# Altium schematic symbol library R20_PCBM.SchLib: 19 symbols
Pins are listed as number, name and electrical type; pins without a type are passive.

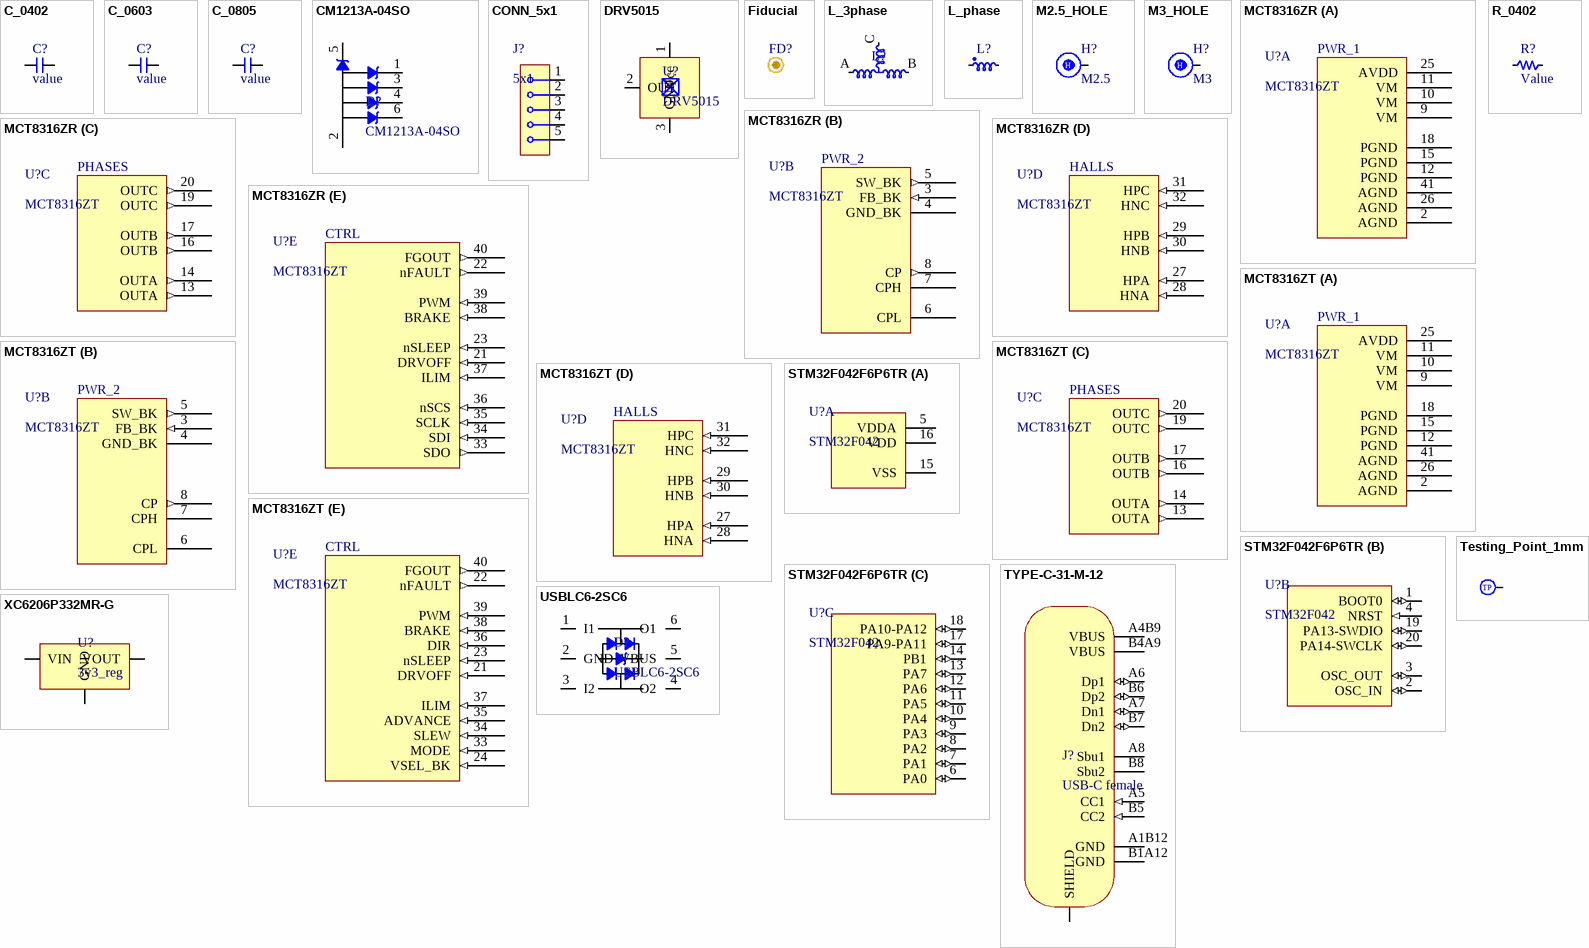
[diagram p0: symbols C_0402 to XC6206P332MR-G]

## C_0402
designator C?, comment value
0402 cap
footprint C0402 (Chip Capacitor, 2-Leads, Body 1.00x0.50mm, IPC Medium Density)
pins: 1, 2

## C_0603
designator C?, comment value
0603 cap
footprint C0603 (Chip Capacitor, 2-Leads, Body 1.60x0.80mm, IPC Medium Density)
pins: 1, 2

## C_0805
designator C?, comment value
0805 cap
footprint C0805 (Chip Capacitor, 2-Leads, Body 2.00x1.25mm, IPC Medium Density)
pins: 1, 2

## CM1213A-04SO
designator D?
Trans Voltage Suppressor Diode, Unidirectional, 1 Element, Silicon, MO-178AB; Manufacturer: ON Semiconductor; Package Body Material: Plastic; Clamping Voltage-Max: 10V; Number of Elements: 1; Max Power Dissipation: 225mW; Qualification Status: Not Qualified; Supplier 1: Arrow Electronics; Manufacturer Part Number: CM1213A-04SO; RoHS: Yes; Category: ESD and Circuit Protection ICs; Stock 1: 6000; Pricing 1: 3000=0.1525, 6000=0.1446, 15000=0.1407, 30000=0.1379 (USD); Pins: 6; Terminal Finish: Tin; Diode Element Material: SILICON; Package Shape: Rectangular; JESD-609 Code: e3; Polarity: Unidirectional; Diode Type: TRANS VOLTAGE SUPPRESSOR; Moisture Sensitivity Level: 1; Surface Mount: Yes; JESD-30 Code: R-PDSO-G6; Package Style: SMALL OUTLINEMeter; Technology: AVALANCHE; Terminal Form: Gull Wing; Terminal Position: DUAL; Reach SVHC Compliant: Yes; RoHS Compliant: Yes; ComponentLink1URL: https://datasheet.ciiva.com:443/pdfs/VipMasterIC/IC/ONSM/ONSM-S-A0004900107/ONSM-S-A0004899992-1.pdf?src-supplier=IHS+Markit; ComponentLink1Description: https://datasheet.ciiva.com:443/pdfs/VipMasterIC/IC/ONSM/ONSM-S-A0004900107/ONSM-S-A0004899992-1.pdf?src-supplier=IHS+Markit; ComponentLink2URL: https://datasheet.ciiva.com/4479/cm1213a-d-69491-4479457.pdf?src-supplier=Mouser; ComponentLink2Description: https://datasheet.ciiva.com/4479/cm1213a-d-69491-4479457.pdf?src-supplier=Mouser; ComponentLink3URL: https://datasheet.ciiva.com/30478/0900766b8125089e-30478747.pdf?src-supplier=Rs; ComponentLink3Description: https://datasheet.ciiva.com/30478/0900766b8125089e-30478747.pdf?src-supplier=Rs; ComponentLink4URL: https://datasheet.ciiva.com/1160/cm1213a-d-1160204.pdf?src-supplier=Element14; ComponentLink4Description: https://datasheet.ciiva.com/1160/cm1213a-d-1160204.pdf?src-supplier=Element14; ComponentLink5URL: https://datasheet.ciiva.com/16393/cm1213a-d-16393197.pdf?src-supplier=Future+Electronics; ComponentLink5Description: https://datasheet.ciiva.com/16393/cm1213a-d-16393197.pdf?src-supplier=Future+Electronics; ComponentLink6URL: https://datasheet.ciiva.com/15198/getdatasheetpartid-296538-15198971.pdf?src-supplier=Verical; ComponentLink6Description: https://datasheet.ciiva.com/15198/getdatasheetpartid-296538-15198971.pdf?src-supplier=Verical; ComponentLink7URL: https://datasheet.ciiva.com/354/cm1213a-rev7-354487.pdf?src-supplier=Digi-Key; ComponentLink7Description: https://datasheet.ciiva.com/354/cm1213a-rev7-354487.pdf?src-supplier=Digi-Key; ComponentLink8URL: https://datasheet.ciiva.com/354/cm1213a-rev7-354486.pdf?src-supplier=Digi-Key; ComponentLink8Description: https://datasheet.ciiva.com/354/cm1213a-rev7-354486.pdf?src-supplier=Digi-Key; Supplier Part Number 1: CM1213A-04SO
footprint SC-74 Onsemi
pins: 1 CH1, 2 VN (power), 3 CH2, 4 CH3, 5 VP (power), 6 CH4

## CONN_5x1
designator J?, comment 5x1  (no BOM)
footprint CONN_5x1
pins: 1, 2, 3, 4, 5

## DRV5015
designator U?
Hall Effect Sensor, -3.7mT Min, 3.7mT Max, 0-20mA, Plastic/epoxy, Rectangular, Surface Mount; Manufacturer: Texas Instruments; Manufacturer Part Number: DRV5015A3QDBZR; Sensor Type: MAGNETIC FIELD SENSOR,HALL EFFECT; Supplier: Mouser; Supplier Part Number: 595-DRV5015A3QDBZR; RoHS: Yes; Category: Integrated Circuits (ICs); Stock: 7485; Pricing: 1=0.25, 10=0.175, 50=0.175, 100=0.154, 1000=0.124, 10000=0.123 (USD); Terminal Finish: Tin; JESD-609 Code: e3; Reach SVHC Compliant: Yes; RoHS Compliant: Yes; ComponentLink1URL: https://www.ti.com:443/lit/ds/symlink/drv5015.pdf?src-supplier=IHS+Markit; ComponentLink1Description: https://www.ti.com:443/lit/ds/symlink/drv5015.pdf?src-supplier=IHS+Markit; ComponentLink2URL: http://www.ti.com/general/docs/suppproductinfo.tsp?distId=10&amp;gotoUrl=http%3A%2F%2Fwww.ti.com%2Flit%2Fgpn%2Fdrv5015&src-supplier=Digikey; ComponentLink2Description: http://www.ti.com/general/docs/suppproductinfo.tsp?distId=10&amp;gotoUrl=http%3A%2F%2Fwww.ti.com%2Flit%2Fgpn%2Fdrv5015&src-supplier=Digikey; LCSC: C2152442
footprint SOT95P237X112-3N (SOT23, 3-Leads, Body 2.92x2.37mm, Pitch 0.95mm, IPC Medium Density)
pins: 1 Vcc, 2 OUT, 3 GND

## Fiducial
designator FD?
footprint Fiducial

## L_3phase
designator L?, comment L_phase  (value not drawn)  (no BOM)
footprint R20_PCBM_4
pins: A, B, C

## L_phase
designator L?  (value not drawn)  (no BOM)
footprint coil_1
pins: 1, 2

## M2.5_HOLE
designator H?, comment M2.5  (no BOM)
M2.5 hole with connection
footprint M2.5_HOLE
pins: 1
text: H

## M3_HOLE
designator H?, comment M3  (no BOM)
M3 hole with connection
footprint M3_HOLE
pins: 1
text: H

## MCT8316ZR
designator U?, comment MCT8316ZT
40-V max, 8-A peak, sensored trapezoidal control 3-phase BLDC motor driver 40-VQFN -40 to 125; Manufacturer: Texas Instruments; Manufacturer Part Number: MCT8316Z0TRGFR; Supplier: Mouser; Supplier Part Number: 595-MCT8316Z0TRGFR; RoHS: No; Category: Integrated Circuits (ICs); Stock: 5280; Pricing: 1=3.66, 10=3.22, 50=3.22, 100=2.69, 1000=1.94, 10000=1.83 (USD)
footprint QFN50P500X700X100_HS-41N (QFN, 40-Leads, Body 5.00x7.00mm, Pitch 0.50mm, Thermal Pad 3.70x5.70mm, IPC Medium Density)
part A pins: 2 AGND (power), 9 VM (power), 10 VM (power), 11 VM (power), 12 PGND (power), 15 PGND (power), 18 PGND (power), 25 AVDD (power), 26 AGND (power), 41 AGND (power)
part B pins: 3 FB_BK (in), 4 GND_BK (power), 5 SW_BK (out), 6 CPL, 7 CPH, 8 CP (out)
part C pins: 13 OUTA (out), 14 OUTA (out), 16 OUTB (out), 17 OUTB (out), 19 OUTC (out), 20 OUTC (out)
part D pins: 27 HPA (in), 28 HNA (in), 29 HPB (in), 30 HNB (in), 31 HPC (in), 32 HNC (in)
part E pins: 21 DRVOFF (in), 22 nFAULT (out), 23 nSLEEP (in), 33 SDO (out), 34 SDI (in), 35 SCLK (in), 36 nSCS (in), 37 ILIM (in), 38 BRAKE (in), 39 PWM (in), 40 FGOUT (out)
part A text: PWR_1
part B text: PWR_2
part C text: PHASES
part D text: HALLS
part E text: CTRL

## MCT8316ZT
designator U?
40-V max, 8-A peak, sensored trapezoidal control 3-phase BLDC motor driver 40-VQFN -40 to 125; Manufacturer: Texas Instruments; Manufacturer Part Number: MCT8316Z0TRGFR; Supplier: Mouser; Supplier Part Number: 595-MCT8316Z0TRGFR; RoHS: No; Category: Integrated Circuits (ICs); Stock: 5280; Pricing: 1=3.66, 10=3.22, 50=3.22, 100=2.69, 1000=1.94, 10000=1.83 (USD)
footprint QFN50P500X700X100_HS-41N (QFN, 40-Leads, Body 5.00x7.00mm, Pitch 0.50mm, Thermal Pad 3.70x5.70mm, IPC Medium Density)
part A pins: 2 AGND (power), 9 VM (power), 10 VM (power), 11 VM (power), 12 PGND (power), 15 PGND (power), 18 PGND (power), 25 AVDD (power), 26 AGND (power), 41 AGND (power)
part B pins: 3 FB_BK (in), 4 GND_BK (power), 5 SW_BK (out), 6 CPL, 7 CPH, 8 CP (out)
part C pins: 13 OUTA (out), 14 OUTA (out), 16 OUTB (out), 17 OUTB (out), 19 OUTC (out), 20 OUTC (out)
part D pins: 27 HPA (in), 28 HNA (in), 29 HPB (in), 30 HNB (in), 31 HPC (in), 32 HNC (in)
part E pins: 21 DRVOFF (in), 22 nFAULT (out), 23 nSLEEP (in), 24 VSEL_BK (in), 33 MODE (in), 34 SLEW (in), 35 ADVANCE (in), 36 DIR (in), 37 ILIM (in), 38 BRAKE (in), 39 PWM (in), 40 FGOUT (out)
part A text: PWR_1
part B text: PWR_2
part C text: PHASES
part D text: HALLS
part E text: CTRL

## R_0402
designator R?, comment Value
0402 62.5mW
footprint R0402 (Chip Resistor, 2-Leads, Body 1.00x0.50mm, IPC Medium Density)
pins: 1, 2

## STM32F042F6P6TR
designator U?, comment STM32F042
32KB 1.65V~3.6V ARM-M0 48MHz 16 TSSOP-20(4.4x6.5) Microcontrollers (MCU/MPU/SOC) ROHS; LCSC: C2969989
footprint TSSOP20_ST (TSOP, 20-Leads, Body 6.50x4.40mm, Pitch 0.65mm, IPC Medium Density)
part A pins: 5 VDDA (power), 15 VSS (power), 16 VDD (power)
part B pins: 1 BOOT0 (io), 2 OSC_IN (io), 3 OSC_OUT (io), 4 NRST (in), 19 PA13-SWDIO (io), 20 PA14-SWCLK (io)
part C pins: 6 PA0 (io), 7 PA1 (io), 8 PA2 (io), 9 PA3 (io), 10 PA4 (io), 11 PA5 (io), 12 PA6 (io), 13 PA7 (io), 14 PB1 (io), 17 PA9-PA11 (io), 18 PA10-PA12 (io)

## Testing_Point_1mm
designator TP?  (no BOM)
1mm testing point
footprint TestingPoint_1mm
pins: 1
text: TP

## TYPE-C-31-M-12
designator J?, comment USB-C female
Conn USB Type C PL 22 POS 0.5mm Solder ST SMD 22 Terminal 1Port Emboss T/R; Manufacturer: HRO Electronics; Manufacturer Part Number: TYPE-C-31-M-12; Supplier 1: LCSC; RoHS: No; Category: Uncategorized; Stock 1: 6920; Pricing 1: 5=0.1612, 50=0.1282, 150=0.112, 1000=0.0977, 2000=0.0937, 5000=0.0913 (USD); Supplier Part Number 1: C165948
footprint TYPE-C-31-M-12 (5A 1 16P Female Type-C SMD  USB Connectors ROHS)
pins: A1B12 GND (power), A4B9 VBUS (power), A5 CC1 (in), A6 Dp1 (io), A7 Dn1 (io), A8 Sbu1, B1A12 GND (power), B4A9 VBUS (power), B5 CC2 (in), B6 Dp2 (io), B7 Dn2 (io), B8 Sbu2, M1 SHIELD

## USBLC6-2SC6
designator D?
Trans Voltage Suppressor Diode, 5V V(RWM), Unidirectional, 1 Element, Silicon; Manufacturer: STMicroelectronics; Package Body Material: Plastic; Additional Feature: HIGH RELIABILITY; Min Breakdown Voltage: 6V; Number of Elements: 1; Clamping Voltage-Max: 17V; Reference Standard: IEC-61000-4-2; Qualification Status: Not Qualified; Supplier 1: Mouser; Manufacturer Part Number: USBLC6-2SC6; RoHS: Yes; Category: TVS Diodes; Stock 1: 162692; Pricing 1: 1=0.61, 10=0.522, 50=0.522, 100=0.375, 1000=0.258, 10000=0.204 (USD); Pins: 6; Package Shape: Rectangular; Terminal Finish: Tin; Diode Element Material: SILICON; Min Operating Temperature: -40°C; Max Operating Temperature: 125°C; JESD-609 Code: e3; Polarity: Unidirectional; Package Style: SMALL OUTLINEMeter; Diode Type: TRANS VOLTAGE SUPPRESSOR; JESD-30 Code: R-PDSO-G6; Moisture Sensitivity Level: 1; Rep Pk Reverse Voltage-Max: 5V; Surface Mount: Yes; Technology: AVALANCHE; Terminal Form: Gull Wing; Terminal Position: DUAL; Peak Reflow Temperature (Cel): 260°C; Reach SVHC Compliant: Yes; RoHS Compliant: Yes; ComponentLink1URL: https://datasheet.ciiva.com:443/pdfs/VipMasterIC/IC/SGST/SGSTS30336/SGSTS30336-1.pdf?src-supplier=IHS+Markit; ComponentLink1Description: https://datasheet.ciiva.com:443/pdfs/VipMasterIC/IC/SGST/SGSTS30336/SGSTS30336-1.pdf?src-supplier=IHS+Markit; ComponentLink2URL: https://datasheet.ciiva.com/1268/1690354-1268384.pdf?src-supplier=Element14; ComponentLink2Description: https://datasheet.ciiva.com/1268/1690354-1268384.pdf?src-supplier=Element14; ComponentLink3URL: https://datasheet.ciiva.com/4508/cd00050750-113117-4508433.pdf?src-supplier=Mouser; ComponentLink3Description: https://datasheet.ciiva.com/4508/cd00050750-113117-4508433.pdf?src-supplier=Mouser; ComponentLink4URL: https://datasheet.ciiva.com/15143/getdatasheetpartid-148465-15143789.pdf?src-supplier=Verical; ComponentLink4Description: https://datasheet.ciiva.com/15143/getdatasheetpartid-148465-15143789.pdf?src-supplier=Verical; ComponentLink5URL: https://datasheet.ciiva.com/16200/cd00050750-16200026.pdf?src-supplier=Future+Electronics; ComponentLink5Description: https://datasheet.ciiva.com/16200/cd00050750-16200026.pdf?src-supplier=Future+Electronics; ComponentLink6URL: https://datasheet.ciiva.com/41444/001184109-da-01-en-ic-esd-protecti-usblc6-2sc6-sot-23-6-stm-41444156.pdf?src-supplier=Conrad; ComponentLink6Description: https://datasheet.ciiva.com/41444/001184109-da-01-en-ic-esd-protecti-usblc6-2sc6-sot-23-6-stm-41444156.pdf?src-supplier=Conrad; Supplier Part Number 1: 511-USBLC6-2SC6
footprint USBLC6-2SC6
pins: 1 I1, 2 GND, 3 I2, 4 O2, 5 VBUS, 6 O1

## XC6206P332MR-G
designator U?, comment 3v3_reg
200mA Fixed 3.3V Positive electrode 6V SOT-23-3L Voltage Regulators - Linear, Low Drop Out (LDO) Regulators ROHS; LCSC: C5446
footprint SOT23_torex (SOT23, 3-Leads, Body 2.90x2.80mm, Pitch 0.95mm, IPC Medium Density)
pins: 1 GND, 2 VOUT, 3 VIN